# Altium footprint library 6_to_14_Pin.PcbLib: 74 footprints (part 2 of 5)
Each footprint in its own frame and in the unit in brackets; x right, y up, seen from the top. Pads: shape width x height; smd on the part's side, far side on the other; paste and mask are expansions set on the pad; w line width, h text height; cw(c..) or ccw(c..) is an arc to the next point about the centre after c.
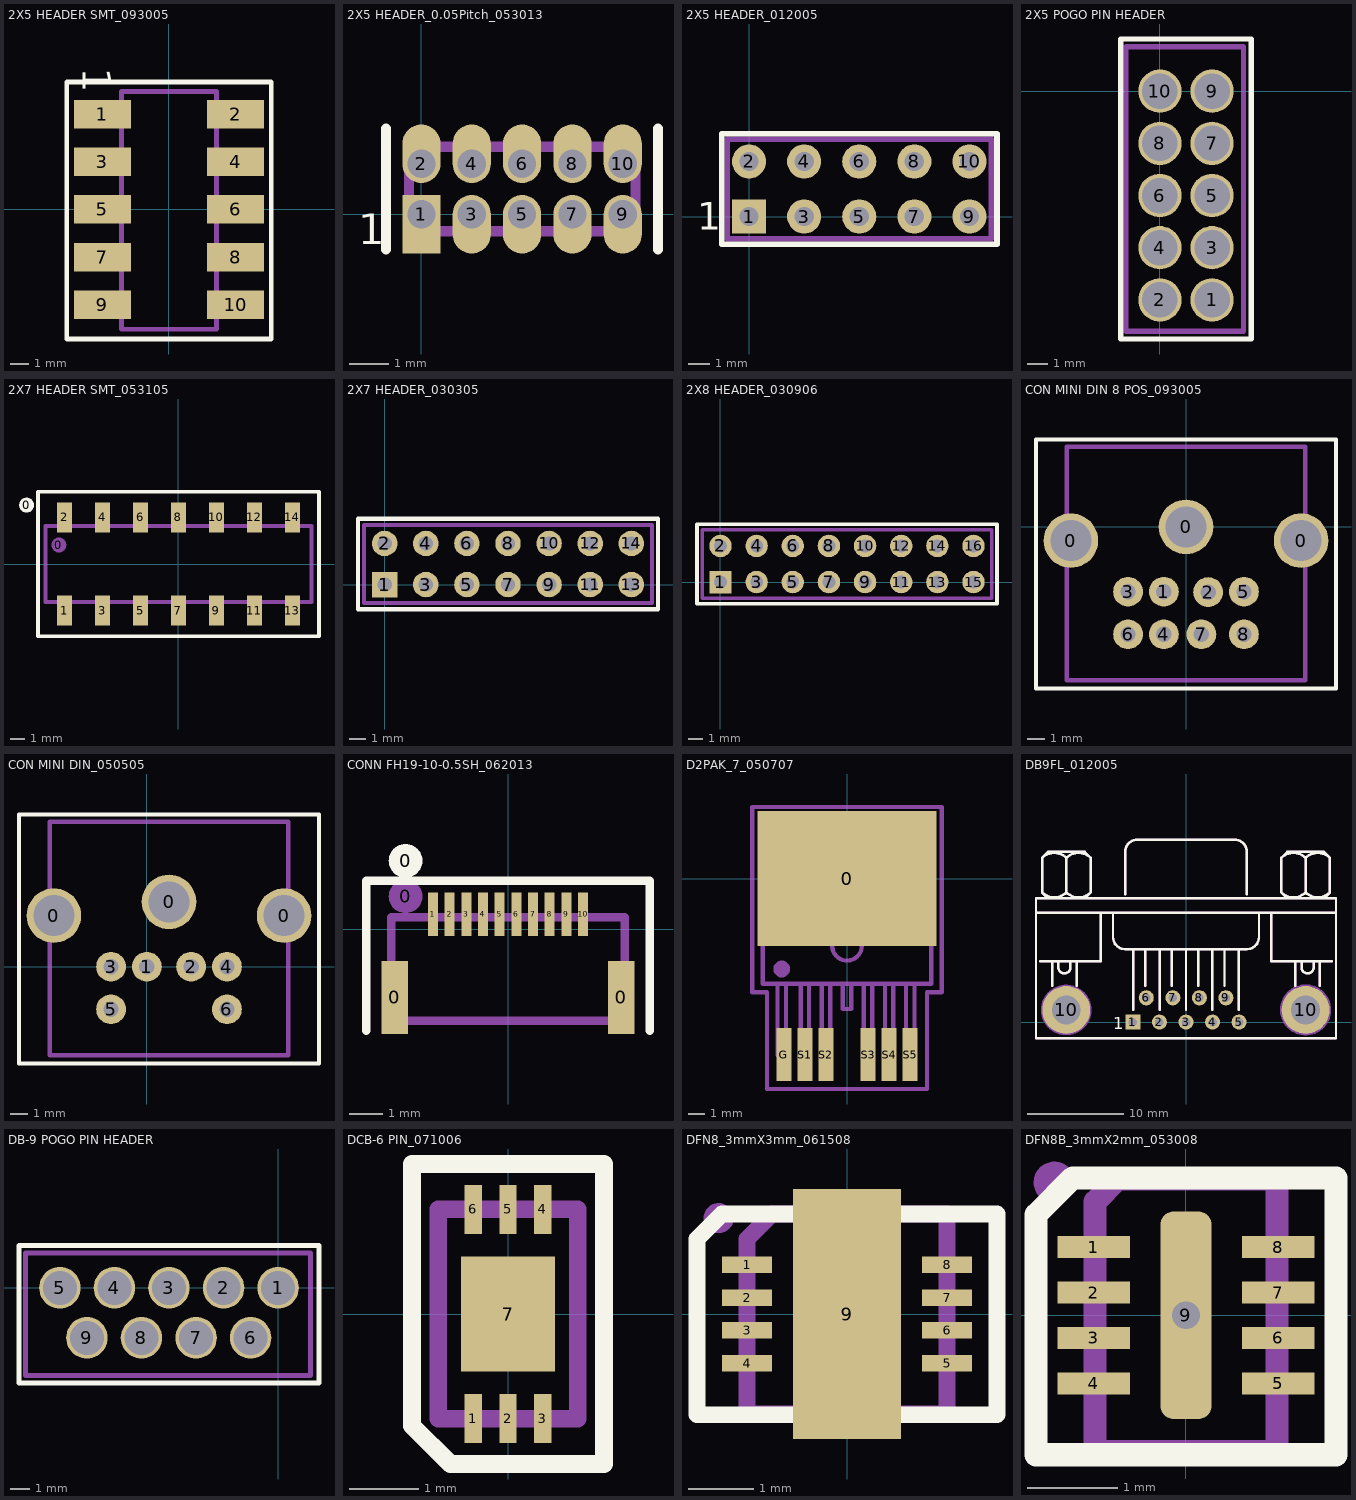
[diagram p1: the footprints below, top view; thin cyan lines are the x and y axes]

## 2X5 HEADER SMT_093005 [mil] "TH"
height 500
pads (10):
  rect 120x60 smd: 1(-140,200) 2(140,200) 3(-140,100) 4(140,100) 5(-140,0) 6(140,0) 7(-140,-100) 8(140,-100) 9(-140,-200) 10(140,-200)
Top Overlay:
  lines w10: -215,-272.2 0,-272.2 215,-272.2 215,175.3 215,267.8 0,267.8 -215,267.8 -215,-249.7 -215,-272.2
  text "1" at -181.1,298.23 h60
Assembly Outline:
  lines w10: -100,-215 -160,-215 -160,-200 -160,-185 -100,-185 ; -100,-115 -160,-115 -160,-100 -160,-85 -100,-85 ; -100,-15 -160,-15 -160,0 -160,15 -100,15 ; -100,85 -160,85 -160,100 -160,115 -100,115 ; -100,185 -160,185 -160,200 -160,215 -100,215 ; 100,-215 160,-215 160,-200 160,-185 100,-185 ; 100,-115 160,-115 160,-100 160,-85 100,-85 ; 100,-15 160,-15 160,0 160,15 100,15 ; 100,85 160,85 160,100 160,115 100,115 ; 100,185 160,185 160,200 160,215 100,215 ; -100,-251.97 100,-251.97 100,248.03 0,248.03 -100,248.03 -100,-251.97
Assembly Designator:
  text ".Designator" at -38.39,-22.64 h40
Assembly Comment:
  text ".Comment" at -210.63,-352.36 h40

## 2X5 HEADER_0.05Pitch_053013 [mil] "TH"
height 500
pads (10):
  rect 38x58 hole 28 copper offset 0,-10 mask+2.5: 1(0,0)
  oval 38x58 hole 28 copper offset 0,10 mask+2.5: 2(0,50) 4(50,50) 6(100,50) 8(150,50) 10(200,50)
  oval 38x58 hole 28 copper offset 0,-10 mask+2.5: 3(50,0) 5(100,0) 7(150,0) 9(200,0)
Top Overlay:
  lines w10: -35,-35 -35,85 ; 235,-35 235,85
  text "1" at -63,-30 h30
Assembly Outline:
  rectangle: -6,44 6,56
  rectangle: 44,44 56,56
  rectangle: 94,44 106,56
  rectangle: 144,44 156,56
  rectangle: 194,44 206,56
  rectangle: -6,-6 6,6
  rectangle: 44,-6 56,6
  rectangle: 94,-6 106,6
  rectangle: 144,-6 156,6
  rectangle: 194,-6 206,6
  lines w10: -12.5,-17 212.5,-17 212.5,67 -12.5,67 -12.5,-17
Assembly Designator:
  text ".Designator" at -43,-92 h40
Assembly Comment:
  text ".Comment" at -33,106 h40

## 2X5 HEADER_012005 [mil] "TH"
height 500
pads (10):
  rect 62x62 hole 35: 1(0,0)
  round 62 hole 35: 2(0,100) 3(100,0) 4(100,100) 5(200,0) 6(200,100) 7(300,0) 8(300,100) 9(400,0) 10(400,100)
Top Overlay:
  lines w10: -50,-50 450,-50 450,150 -50,150 -50,-50
  text "1" at -94.49,-23.62 h50
Assembly Outline:
  lines w10: -40,-40 -40,140 440,140 440,-40 -40,-40 ; -10,-10 -10,10 10,10 10,-10 -10,-10 ; -10,90 -10,110 10,110 10,90 -10,90 ; 90,-10 90,10 110,10 110,-10 90,-10 ; 90,90 90,110 110,110 110,90 90,90 ; 190,-10 190,10 210,10 210,-10 190,-10 ; 190,90 190,110 210,110 210,90 190,90 ; 290,-10 290,10 310,10 310,-10 290,-10 ; 290,90 290,110 310,110 310,90 290,90 ; 390,-10 390,10 410,10 410,-10 390,-10 ; 390,90 390,110 410,110 410,90 390,90
Assembly Designator:
  text ".Designator" at -43,-92 h40
Assembly Comment:
  text ".Comment" at -40,153 h40

## 2X5 POGO PIN HEADER [mil] "TH"
height 350
pads (10):
  round 83 hole 68: 1(100,-400) 2(0,-400) 3(100,-300) 4(0,-300) 5(100,-200) 6(0,-200) 7(100,-100) 8(0,-100) 9(100,0) 10(0,0)
Top Overlay:
  lines w10: -75,-475 0,-475 175,-475 175,-350 175,100 100,100 -75,100 -75,-475
Assembly Outline:
  lines w10: -65,-460 -65,85 160,85 160,-460 -65,-460
Assembly Designator:
  text ".Designator" at -5,125 h40
Assembly Comment:
  text ".Comment" at -120,-530 h40

## 2X7 HEADER SMT_053105 [mil] "SMT"
height 350
pads (16):
  round 40 on Top Overlay: 0(-400,155)
  round 40 on Mech1: 0(-315,50)
  rect 40x78 smd: 1(-300,-122.5) 2(-300,122.5) 3(-200,-122.5) 4(-200,122.5) 5(-100,-122.5) 6(-100,122.5) 7(0,-122.5) 8(0,122.5) 9(100,-122.5) 10(100,122.5) 11(200,-122.5) 12(200,122.5) 13(300,-122.5) 14(300,122.5)
Top Overlay:
  lines w10: -370,-190 -370,0 -370,190 350,190 370,190 370,0 370,-190 350,-190 -370,-190
Assembly Outline:
  lines w10: -350,-100 350,-100 350,100 -350,100 -350,-100 ; -310,-140 -310,-100 -290,-100 -290,-140 -300,-140 -310,-140 ; -310,100 -310,140 -300,140 -290,140 -290,100 -310,100 ; -210,-140 -210,-100 -190,-100 -190,-140 -200,-140 -210,-140 ; -210,100 -210,140 -200,140 -190,140 -190,100 -210,100 ; -110,-140 -110,-100 -90,-100 -90,-140 -100,-140 -110,-140 ; -110,100 -110,140 -100,140 -90,140 -90,100 -110,100 ; -10,-140 -10,-100 10,-100 10,-140 0,-140 -10,-140 ; -10,100 -10,140 0,140 10,140 10,100 -10,100 ; 90,-140 90,-100 110,-100 110,-140 100,-140 90,-140 ; 90,100 90,140 100,140 110,140 110,100 90,100 ; 190,-140 190,-100 210,-100 210,-140 200,-140 190,-140 ; 190,100 190,140 200,140 210,140 210,100 190,100 ; 290,-140 290,-100 310,-100 310,-140 300,-140 290,-140 ; 290,100 290,140 300,140 310,140 310,100 290,100
Assembly Designator:
  text ".Designator" at -35,10 h40
Assembly Comment:
  text ".Comment" at -150,-60 h40

## 2X7 HEADER_030305 [mil] "TH"
height 350
pads (14):
  rect 62x62 hole 35: 1(0,0)
  round 62 hole 35: 2(0,100) 3(100,0) 4(100,100) 5(200,0) 6(200,100) 7(300,0) 8(300,100) 9(400,0) 10(400,100) 11(500,0) 12(500,100) 13(600,0) 14(600,100)
Top Overlay:
  lines w10: -65,-60 665,-60 665,160 40,160 -65,160 -65,-60
Assembly Outline:
  lines w8: -12,-13 -12,12 13,12 13,-13 -12,-13 ; -12,87 -12,112 13,112 13,87 -12,87 ; 88,-13 88,12 113,12 113,-13 88,-13 ; 88,87 88,112 113,112 113,87 88,87 ; 188,-13 188,12 213,12 213,-13 188,-13 ; 188,87 188,112 213,112 213,87 188,87 ; 288,-13 288,12 313,12 313,-13 288,-13 ; 288,87 288,112 313,112 313,87 288,87 ; 388,-13 388,12 413,12 413,-13 388,-13 ; 388,87 388,112 413,112 413,87 388,87 ; 488,-13 488,12 513,12 513,-13 488,-13 ; 488,87 488,112 513,112 513,87 488,87 ; 588,-13 588,12 613,12 613,-13 588,-13 ; 588,87 588,112 613,112 613,87 588,87
  lines w10: -50,-45 650,-45 650,145 -50,145 -50,0 -50,-45
Assembly Designator:
  text ".Designator" at 8,33 h40
Assembly Comment:
  text ".Comment" at -21,-100 h40

## 2X8 HEADER_030906 [mil] "TH"
height 350
pads (16):
  rect 62x62 hole 35: 1(0,0)
  round 62 hole 35: 2(0,100) 3(100,0) 4(100,100) 5(200,0) 6(200,100) 7(300,0) 8(300,100) 9(400,0) 10(400,100) 11(500,0) 12(500,100) 13(600,0) 14(600,100) 15(700,0) 16(700,100)
Top Overlay:
  lines w10: -65,-60 -65,160 40,160 765,160 765,-60 -65,-60
Assembly Outline:
  lines w8: -12,-13 13,-13 13,12 -12,12 -12,-13 ; -12,87 13,87 13,112 -12,112 -12,87 ; 88,-13 113,-13 113,12 88,12 88,-13 ; 88,87 113,87 113,112 88,112 88,87 ; 188,-13 213,-13 213,12 188,12 188,-13 ; 188,87 213,87 213,112 188,112 188,87 ; 288,-13 313,-13 313,12 288,12 288,-13 ; 288,87 313,87 313,112 288,112 288,87 ; 388,-13 413,-13 413,12 388,12 388,-13 ; 388,87 413,87 413,112 388,112 388,87 ; 488,-13 513,-13 513,12 488,12 488,-13 ; 488,87 513,87 513,112 488,112 488,87 ; 588,-13 613,-13 613,12 588,12 588,-13 ; 588,87 613,87 613,112 588,112 588,87 ; 688,-13 713,-13 713,12 688,12 688,-13 ; 688,87 713,87 713,112 688,112 688,87
  lines w10: -50,-45 -50,0 -50,145 750,145 750,-45 -50,-45
Assembly Designator:
  text ".Designator" at 160,35 h40
Assembly Comment:
  text ".Comment" at -21,-100 h40

## CON MINI DIN 8 POS_093005 [mm] "TH"
height 13.081
pads (11):
  round 3.2 hole 2.4: 0(-6.75,-0.8) 0(0,0) 0(6.75,-0.8)
  round 1.75 hole 0.9: 1(-1.3,-3.8) 2(1.3,-3.825) 3(-3.4,-3.8) 4(-1.3,-6.3) 5(3.4,-3.8) 6(-3.4,-6.3) 7(0.9,-6.3) 8(3.4,-6.3)
Top Overlay:
  lines w0.254: -8.8,-9.475 -8.8,-0.8 -8.8,5.125 0,5.125 8.8,5.125 8.8,-0.8 8.8,-9.475 0,-9.475 -8.8,-9.475
Assembly Outline:
  lines w0.254: -7,-9 -7,4.7 0,4.7 7,4.7 7,-9 0,-9 -7,-9
  text "FRONT" at -3.375,2.725 h1.52
Assembly Designator:
  text ".Designator" at -0.725,-7.3 h1.02
Assembly Comment:
  text ".Comment" at -4.525,-10.75 h1.02

## CON MINI DIN_050505 [mm] "TH"
height 13.081
pads (9):
  round 3.2 hole 2.4: 0(-5.45,3) 0(1.3,3.8) 0(8.05,3)
  round 1.75 hole 0.9: 1(0,0) 2(2.6,0) 3(-2.1,0) 4(4.7,0) 5(-2.1,-2.5) 6(4.7,-2.5)
Top Overlay:
  lines w0.254: -7.5,-5.675 -7.5,3 -7.5,8.925 1.3,8.925 10.1,8.925 10.1,3 10.1,-5.675 1.3,-5.675 -7.5,-5.675
Assembly Outline:
  lines w0.254: -5.7,-5.2 -5.7,8.5 1.3,8.5 8.3,8.5 8.3,-5.2 1.3,-5.2 -5.7,-5.2
  text "FRONT" at -2.075,6.525 h1.52
Assembly Designator:
  text ".Designator" at 0.575,-3.5 h1.02
Assembly Comment:
  text ".Comment" at -3.225,-6.95 h1.02

## CONN FH19-10-0.5SH_062013 [mm] "SM FP"
height 2
pads (14):
  rect 0.8x2.2 smd mask+0.025: 0(-3.4,-2.05) 0(3.4,-2.05)
  round 1.016 on Mech1 mask+0.025: 0(-3.073,0.983)
  round 1.016 on Top Overlay mask+0.025: 0(-3.073,2.05)
  rect 0.3x1.3 smd mask+0.025: 1(-2.25,0.45) 2(-1.75,0.45) 3(-1.25,0.45) 4(-0.75,0.45) 5(-0.25,0.45) 6(0.25,0.45) 7(0.75,0.45) 8(1.25,0.45) 9(1.75,0.45) 10(2.25,0.45)
Top Overlay:
  lines w0.254: -4.25,-3.05 -4.25,1.45 4.25,1.45 4.25,-3.05
Assembly Outline:
  lines w0.254: -2.255,0.35 -2.255,0.681 ; -1.755,0.35 -1.755,0.681 ; -1.255,0.35 -1.255,0.681 ; -0.755,0.35 -0.755,0.681 ; -0.255,0.35 -0.255,0.681 ; 0.245,0.35 0.245,0.681 ; 0.745,0.35 0.745,0.681 ; 1.245,0.35 1.245,0.681 ; 1.745,0.35 1.745,0.681 ; 2.245,0.35 2.245,0.681 ; -3.5,-2.75 -3.5,0.35 3.5,0.35 3.5,-2.75 -3.5,-2.75
Assembly Designator:
  text ".Designator" at -1.372,-1.912 h1.02
Assembly Comment:
  text ".Comment" at -4.978,-4.325 h1.02

## D2PAK_7_050707 [mm] "SMT"
height 4.826
pads (7):
  rect 10.8x8.15 smd: 0(0,0)
  rect 0.9x3.2 smd: G(-3.81,-10.625) S1(-2.54,-10.625) S2(-1.27,-10.625) S3(1.27,-10.625) S4(2.54,-10.625) S5(3.81,-10.625)
Assembly Outline:
  circle w0.508: c-3.937,-5.461 r0.254
  circle w0.254: c0,-4.064 r0.889
  lines w0.254: -5.08,2.54 5.08,2.54 ; -4.191,-6.35 -4.191,-10.668 -3.683,-10.668 -3.683,-6.35 ; -2.794,-6.35 -2.794,-10.668 -2.286,-10.668 -2.286,-6.35 ; -1.524,-6.35 -1.524,-10.668 -1.016,-10.668 -1.016,-6.35 ; -0.254,-6.35 -0.254,-7.874 0.254,-7.874 0.254,-6.35 ; 1.016,-6.35 1.016,-10.668 1.524,-10.668 1.524,-6.35 ; 2.286,-6.35 2.286,-10.668 2.794,-10.668 2.794,-6.35 ; 3.556,-6.35 3.556,-10.668 4.064,-10.668 4.064,-6.35 ; -5.08,-6.35 5.08,-6.35 5.08,3.048 3.048,3.81 -3.048,3.81 -5.08,3.048 -5.08,-6.35
Assembly Designator:
  lines w0.254: -5.715,-6.858 -5.715,4.318 5.715,4.318 5.715,-6.858 4.826,-6.858 4.826,-12.7 -4.826,-12.7 -4.826,-6.858 -5.715,-6.858
  text ".Designator" at -1.524,1.524 h1.02
Assembly Comment:
  text ".Comment" at -4.318,-1.651 h1.02

## DB9FL_012005 [mil] "TH"
height 500
pads (11):
  rect 62x62 hole 35: 1(-218.33,0)
  round 62 hole 35: 2(-109.17,0) 3(0,0) 4(109.17,0) 5(218.33,0) 6(-163.33,100) 7(-54.17,100) 8(55,100) 9(164.17,100)
  round 196.67 hole 118.33: 10(-492.5,50) 10(491.67,50)
Top Overlay:
  lines w10: -616.67,450 616.67,450 ; -600,250 -350,250 -350,450 ; -591.75,533.25 ccw(c-541.67,583.33) -491.58,533.25 ; -591.75,675.09 cw(c-541.67,625) -491.58,675.09 ; -566.67,508.33 -591.67,533.33 -591.67,675 -566.67,700 -416.67,700 -391.67,675 -391.67,533.33 -416.67,508.33 ; -550,150 -550,250 ; -525,250 -525,225 ccw(c-500,225) -475,225 -475,250 ; -491.75,533.25 ccw(c-441.67,583.33) -391.58,533.25 ; -491.75,675.09 cw(c-441.67,625) -391.58,675.09 ; -491.67,533.33 -491.67,675 ; -450,150 -450,250 ; -300,450 -300,350 ccw(c-250,350) -250,300 250,300 ccw(c250,350) 300,350 300,450 ; -250,525 -250,700 cw(c-200,700) -200,750 200,750 cw(c200,700) 250,700 250,525 ; -216.67,50 -216.67,300 ; -166.67,150 -166.67,300 ; -108.33,50 -108.33,300 ; -58.33,150 -58.33,300 ; 0,50 0,300 ; 50,150 50,300 ; 108.33,50 108.33,300 ; 158.33,150 158.33,300 ; 216.67,50 216.67,300 ; 350,450 350,250 600,250 ; 391.58,533.25 ccw(c441.67,583.33) 491.75,533.25 ; 391.58,675.09 cw(c441.67,625) 491.75,675.09 ; 416.67,508.33 391.67,533.33 391.67,675 416.67,700 566.67,700 591.67,675 591.67,533.33 566.67,508.33 ; 450,150 450,250 ; 475,250 475,225 ccw(c500,225) 525,225 525,250 ; 491.58,533.25 ccw(c541.67,583.33) 591.75,533.25 ; 491.58,675.09 cw(c541.67,625) 591.75,675.09 ; 491.67,533.33 491.67,675 ; 550,150 550,250 ; -616.67,-66.67 616.67,-66.67 616.67,508.33 -616.67,508.33 -616.67,-66.67
  text "1" at -300,-30 h50
Assembly Outline:
  circle w10: c491.67,50 r100.14
  circle w10: c-492.5,50 r99.15
  lines w10: -616.67,450 616.67,450 ; -600,250 -350,250 -350,450 ; -591.75,533.25 ccw(c-541.67,583.33) -491.58,533.25 ; -591.75,675.09 cw(c-541.67,625) -491.58,675.09 ; -566.67,508.33 -591.67,533.33 -591.67,675 -566.67,700 -416.67,700 -391.67,675 -391.67,533.33 -416.67,508.33 ; -550,150 -550,250 ; -525,250 -525,225 ccw(c-500,225) -475,225 -475,250 ; -491.75,533.25 ccw(c-441.67,583.33) -391.58,533.25 ; -491.75,675.09 cw(c-441.67,625) -391.58,675.09 ; -491.67,533.33 -491.67,675 ; -450,150 -450,250 ; -300,450 -300,350 ccw(c-250,350) -250,300 250,300 ccw(c250,350) 300,350 300,450 ; -250,525 -250,700 cw(c-200,700) -200,750 200,750 cw(c200,700) 250,700 250,525 ; -216.67,50 -216.67,300 ; -166.67,150 -166.67,300 ; -108.33,50 -108.33,300 ; -58.33,150 -58.33,300 ; 0,50 0,300 ; 50,150 50,300 ; 108.33,50 108.33,300 ; 158.33,150 158.33,300 ; 216.67,50 216.67,300 ; 350,450 350,250 600,250 ; 391.58,533.25 ccw(c441.67,583.33) 491.75,533.25 ; 391.58,675.09 cw(c441.67,625) 491.75,675.09 ; 416.67,508.33 391.67,533.33 391.67,675 416.67,700 566.67,700 591.67,675 591.67,533.33 566.67,508.33 ; 450,150 450,250 ; 475,250 475,225 ccw(c500,225) 525,225 525,250 ; 491.58,533.25 ccw(c541.67,583.33) 591.75,533.25 ; 491.58,675.09 cw(c541.67,625) 591.75,675.09 ; 491.67,533.33 491.67,675 ; 550,150 550,250 ; -616.67,-66.67 616.67,-66.67 616.67,508.33 -616.67,508.33 -616.67,-66.67
Assembly Designator:
  text ".Designator" at -93.33,393 h40
Assembly Comment:
  text ".Comment" at -247.33,322 h40

## DB-9 POGO PIN HEADER [mil] "TH"
height 350
pads (9):
  round 83 hole 68: 1(0,0) 2(-109.17,0) 3(-218.33,0) 4(-327.5,0) 5(-436.67,0) 6(-55,-100) 7(-164.17,-100) 8(-273.33,-100) 9(-382.5,-100)
Top Layer:
  lines w20: -436.67,0 -434.81,1.85 ; -219.81,1.48 -218.33,0 ; -109.81,0.65 -109.17,0
Top Overlay:
  lines w10: -518.33,-190 81.67,-190 81.67,85 -218.33,85 -518.33,85 -518.33,-190
Assembly Outline:
  lines w10: -505,-175 -505,70 65,70 65,-175 -505,-175
Assembly Designator:
  text ".Designator" at -270,110 h40
Assembly Comment:
  text ".Comment" at -420,-250 h40

## DCB-6 PIN_071006 [mm] "SMT"
height 0.75
pads (7):
  rect 0.25x0.7 smd mask+0.03: 1(-0.5,-1.5) 2(0,-1.5) 3(0.5,-1.5) 4(0.5,1.5) 5(0,1.5) 6(-0.5,1.5)
  rect 1.35x1.65 smd: 7(0,0)
Top Overlay:
  lines w0.254: -1.375,-1.6 -1.375,0 -1.375,2.15 0,2.15 1.375,2.15 1.375,0 1.375,-2.15 0,-2.15 -0.825,-2.15 -1.375,-1.6
Assembly Outline:
  lines w0.254: -1,0 -1,1.5 ; -1,1.5 1,1.5 1,-1.5 -1,-1.5 -1,1.5
Assembly Designator:
  text ".Designator" at -0.875,-0.45 h1.02
Assembly Comment:
  text ".Comment" at -1.425,-3.575 h1.02

## DFN8_3mmX3mm_061508 [mil] "SMT"
height 50
pads (9):
  rect 30x9.9 smd mask+1: 1(-60,29.53) 2(-60,9.84) 3(-60,-9.84) 4(-60,-29.53) 5(60,-29.53) 6(60,-9.84) 7(60,9.84) 8(60,29.53)
  rect 65x150 smd paste-25 mask-20: 9(0,0)
Top Overlay:
  lines w10: -90,-60.47 90,-60.47 ; -90,-60 -90,45 -75,60 ; -74,60 90,60 90,-60
Top Solder:
  rectangle: -5,-75 5,75
Assembly Outline:
  lines w10: -73.12,58.5 ccw(c-77,57.53) -73,57.53 ; -60,-60 60,-60 60,60 -45,60 -60,45 -60,-60
Assembly Designator:
  text ".Designator" at -44,75.53 h40
Assembly Comment:
  text ".Comment" at -83,-112.47 h40

## DFN8B_3mmX2mm_053008 [mil] "SMT"
height 32
pads (9):
  rect 31.5x9.6 smd mask+1: 1(-40,29.53) 2(-40,9.84) 3(-40,-9.84) 4(-40,-29.53) 5(40,-29.53) 6(40,-9.84) 7(40,9.84) 8(40,29.53)
  rrect50% 22x90 smd mask+1: 9(0,0)
via 0,0 diameter 22 hole 12
Top Overlay:
  lines w10: -65,-60.47 65,-60.47 65,59.53 -49,59.53 -65,43.53 -65,-60.47
Assembly Outline:
  lines w10: -53.12,58.5 ccw(c-57,57.53) -53,57.53 ; -39.37,-59.06 39.37,-59.06 39.37,59.06 -29.47,59.06 -39.37,49.16 -39.37,-59.06
Assembly Designator:
  text ".Designator" at -44,75.53 h40
Assembly Comment:
  text ".Comment" at -83,-112.47 h40